# EAGLE library part DSPIC30F2011-30I/SO (library Microchip_By_element14_Batch_1)
Digital Signal Controller
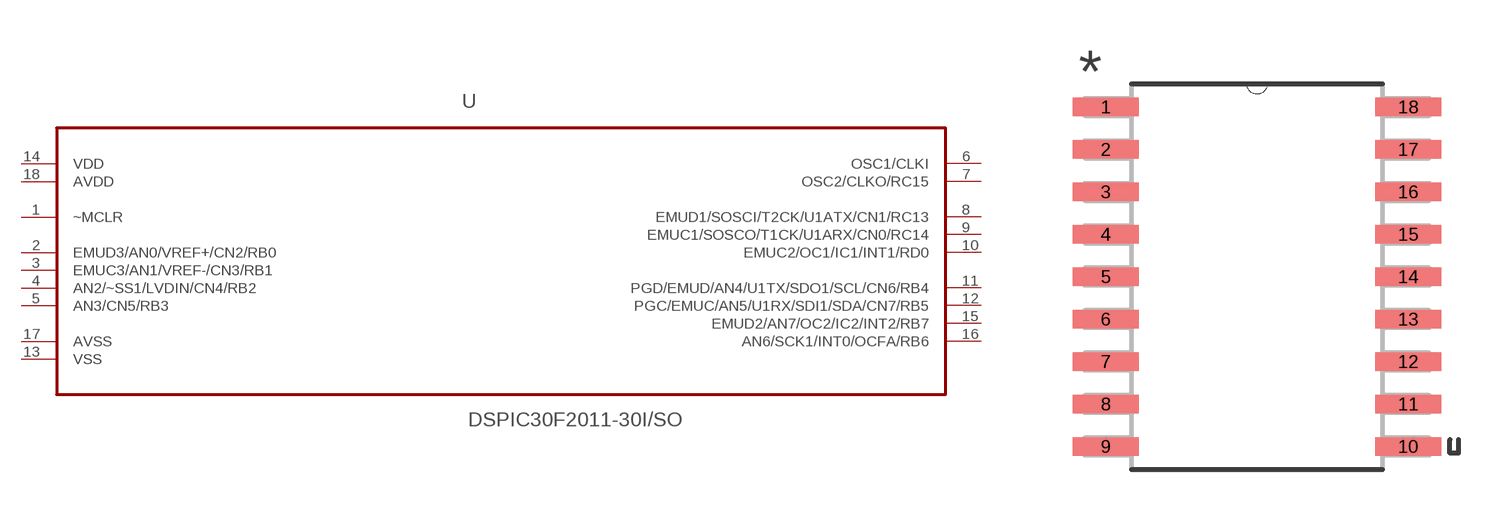
[diagram p278: symbol with the pads of SOIC127P1030X265-18N; footprint SOIC127P1030X265-18N]

Designator prefix -

## DSPIC30F2011-30I/SO (MPN: DSPIC30F2011-30I/SO; OC_FARNELL: 1332023; OC_NEWARK: 71J3660; PACKAGE: SOIC-18; SUPPLIER: Microchip)  [SOIC127P1030X265-18N]
1  ~MCLR  in
2  EMUD3/AN0/VREF+/CN2/RB0
3  EMUC3/AN1/VREF-/CN3/RB1
4  AN2/~SS1/LVDIN/CN4/RB2
5  AN3/CN5/RB3
6  OSC1/CLKI
7  OSC2/CLKO/RC15
8  EMUD1/SOSCI/T2CK/U1ATX/CN1/RC13
9  EMUC1/SOSCO/T1CK/U1ARX/CN0/RC14
10  EMUC2/OC1/IC1/INT1/RD0
11  PGD/EMUD/AN4/U1TX/SDO1/SCL/CN6/RB4
12  PGC/EMUC/AN5/U1RX/SDI1/SDA/CN7/RB5
13  VSS  pas
14  VDD  pwr
15  EMUD2/AN7/OC2/IC2/INT2/RB7
16  AN6/SCK1/INT0/OCFA/RB6
17  AVSS  pas
18  AVDD  pwr

## Footprint SOIC127P1030X265-18N (pad centres in mm)
smd 1.981 x 0.559: 1 -4.521,5.08; 2 -4.521,3.81; 3 -4.521,2.54; 4 -4.521,1.27; 5 -4.521,0; 6 -4.521,-1.27; 7 -4.521,-2.54; 8 -4.521,-3.81; 9 -4.521,-5.08; 10 4.521,-5.08; 11 4.521,-3.81; 12 4.521,-2.54; 13 4.521,-1.27; 14 4.521,0; 15 4.521,1.27; 16 4.521,2.54; 17 4.521,3.81; 18 4.521,5.08